# Altium footprint library 2462.PcbLib: 1 footprints
Each footprint in its own frame and in the unit in brackets; x right, y up, seen from the top. Pads: shape width x height; smd on the part's side, far side on the other; paste and mask are expansions set on the pad; w line width, h text height; cw(c..) or ccw(c..) is an arc to the next point about the centre after c.
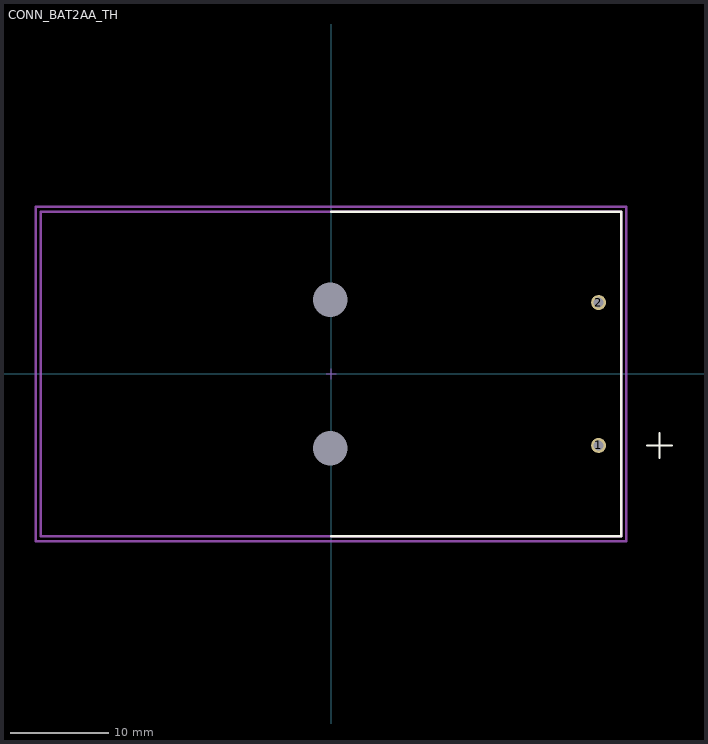
[diagram p0: the footprint, top view; thin cyan lines are the x and y axes]

## CONN_BAT2AA_TH [mil] "Plugin Battery connector 2x AA ROHS"
pads (4):
  round 60 hole 40: 1(1066.5,-285) 2(1066.5,285)
  round 0 hole 138 unplated: ""(-3.5,-295.5) ""(-3.5,295.5)
Top Overlay:
  lines w7.87: 1260,-285 1360,-285 ; 1310,-335 1310,-235
  lines w10: 0,-646 1157.5,-646 1157.5,646 0,646
Top Assembly:
  lines w10: -1157.5,-646 1157.5,-646 1157.5,646 -1157.5,646 -1157.5,-646
  text ".Designator" at 0,11.27 h60
Top Courtyard (Mech15):
  lines w10: -1177.5,-666 1177.5,-666 1177.5,666 -1177.5,666 -1177.5,-666
Top Component Center:
  lines w2: -20,0 20,0 ; 0,-20 0,20